# EAGLE library part CON-MOLEX-2MM (library arducorder-mini)
Molex 2mm pitch connectors. (87368-1624, 0877591650)
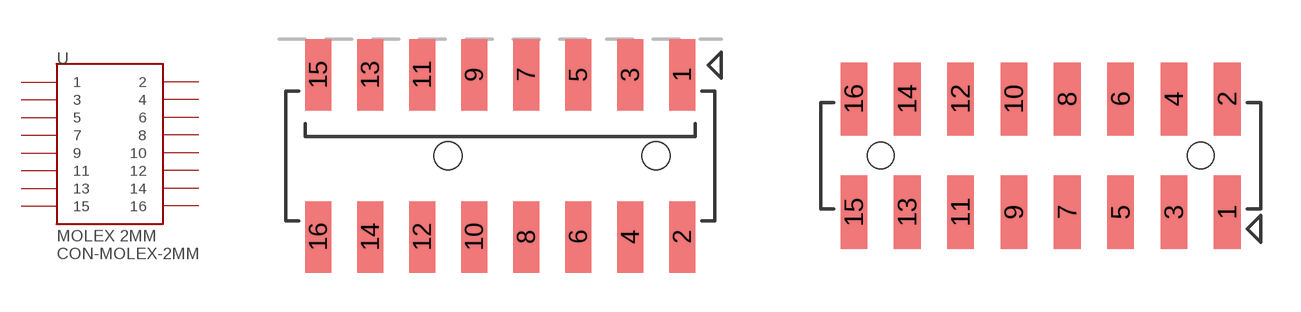
[diagram p2: symbol with the pads of MOLEX-87368-1624; footprints MOLEX-87368-1624, MOLEX-0877591650]

Designator prefix -

## CON-MOLEX-2MMFEMALE_RA  [MOLEX-87368-1624]
1  1
2  2
3  3
4  4
5  5
6  6
7  7
8  8
9  9
10  10
11  11
12  12
13  13
14  14
15  15
16  16

## CON-MOLEX-2MMMALE  [MOLEX-0877591650]
Pads as for MOLEX-87368-1624

## CON-MOLEX-2MMFEMALE  [MOLEX-0791091007]
Pads as for MOLEX-87368-1624

## Footprint MOLEX-87368-1624 (pad centres in mm)
smd 1 x 2.75: 1 7,3.125; 2 7,-3.125; 3 5,3.125; 4 5,-3.125; 5 3,3.125; 6 3,-3.125; 7 1,3.125; 8 1,-3.125; 9 -1,3.125; 10 -1,-3.125; 11 -3,3.125; 12 -3,-3.125; 13 -5,3.125; 14 -5,-3.125; 15 -7,3.125; 16 -7,-3.125
hole 1.1 at -2,0
hole 1.1 at 6,0

## Footprint MOLEX-0877591650 (pad centres in mm)
smd 1 x 2.75: 1 7,-2.125; 2 7,2.125; 3 5,-2.125; 4 5,2.125; 5 3,-2.125; 6 3,2.125; 7 1,-2.125; 8 1,2.125; 9 -1,-2.125; 10 -1,2.125; 11 -3,-2.125; 12 -3,2.125; 13 -5,-2.125; 14 -5,2.125; 15 -7,-2.125; 16 -7,2.125
hole 1 at -6,0
hole 1 at 6,0

## Footprint MOLEX-0791091007 (pad centres in mm)
smd 1.12 x 1.83: 1 7,2.35; 2 7,-2.35; 3 5,2.35; 4 5,-2.35; 5 3,2.35; 6 3,-2.35; 7 1,2.35; 8 1,-2.35; 9 -1,2.35; 10 -1,-2.35; 11 -3,2.35; 12 -3,-2.35; 13 -5,2.35; 14 -5,-2.35; 15 -7,2.35; 16 -7,-2.35